# Altium integrated library TI Data Converters Digital to Analog Converter.IntLib: 1533 symbols (part 44 of 99)
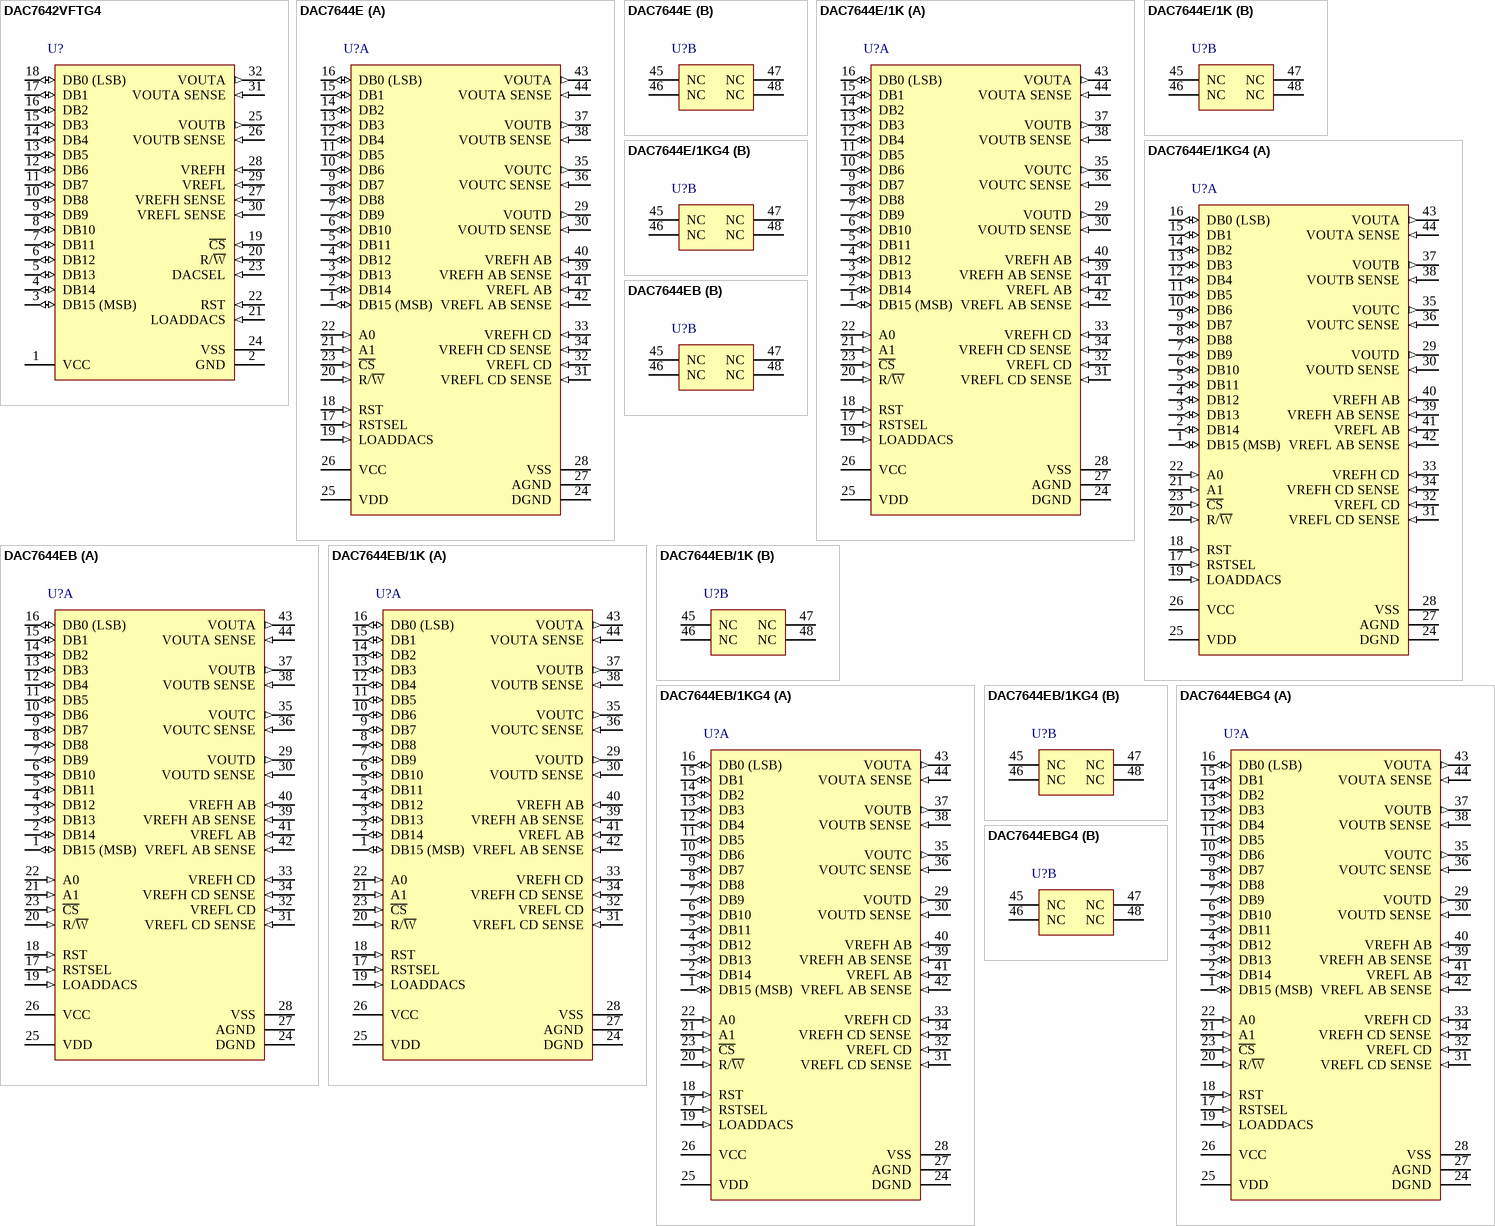
[diagram p116: symbols DAC7642VFTG4 to DAC7644EBG4]

## DAC7644E/1KG4
designator U?
16-Bit, Quad Voltage Output DAC, -40 to 85 degC, 48-pin SOP (DL48), Green (RoHS & no Sb/Br); Manufacturer: Texas Instruments; PartNumber: DAC7644E/1KG4; DAC Channels: 4; DNL(Max)(+/-LSB): 3; Interface: Parallel; Resolution(Bits): 16; Settling Time(us): 10; SubFamily: Precision DAC (=<10MSPS); DatasheetVersion: SBAS121; PackageVersion: 4040048/E, 12/2001; PackageReference: DL48; PackageDescription: 48-Pin Plastic Small Outline, Body 7.49 x 15.88 mm, Pitch 0.635 mm; Supplier 1: Digi-Key; Supplier Part Number 1: DAC7644E/1KG4-ND; Supplier 2: Mouser; Supplier Part Number 2: 595-DAC7644E/1KG4; Eco-Plan: Green (RoHS & no Sb/Br); INL(Max)(+/-LSB): 4; Mounting Technology: Surface Mount; Code_JEDEC: MO-118; ComponentLink1Description: Manufacturer URL; ComponentLink1URL: http://www.ti.com/; ComponentLink2Description: Datasheet; ComponentLink2URL: http://www.ti.com/general/docs/lit/getliterature.tsp?genericPartNumber=DAC7644&fileType=pdf; ComponentLink3Description: Package Specification; ComponentLink3URL: http://www.ti.com/lit/ml/msso001c/msso001c.pdf
footprint TI-DL48_N (SOP, 48-Leads, Body 15.88x7.49mm, Pitch 0.635mm, IPC Medium Density)
footprint TI-DL48_L (SOP, 48-Leads, Body 15.88x7.49mm, Pitch 0.635mm, IPC High Density)
footprint TI-DL48_M (SOP, 48-Leads, Body 15.88x7.49mm, Pitch 0.635mm, IPC Low Density)
part A pins: 1 DB15 (MSB) (io) "Data Bit 15, MSB", 2 DB14 (io) "Data Bit 14", 3 DB13 (io) "Data Bit 13", 4 DB12 (io) "Data Bit 12", 5 DB11 (io) "Data Bit 11", 6 DB10 (io) "Data Bit 10", 7 DB9 (io) "Data Bit 9", 8 DB8 (io) "Data Bit 8", 9 DB7 (io) "Data Bit 7", 10 DB6 (io) "Data Bit 6", 11 DB5 (io) "Data Bit 5", 12 DB4 (io) "Data Bit 4", 13 DB3 (io) "Data Bit 3", 14 DB2 (io) "Data Bit 2", 15 DB1 (io) "Data Bit 1", 16 DB0 (LSB) (io) "Data Bit 0, LSB", 17 RSTSEL (in) "Reset Select. Determines the action of RST. If HIGH, a RST command will set the DAC registers to mid-scale. If LOW, a RST command will set the DAC registers to zero.", 18 RST (in) "Reset, Rising Edge Triggered. Depending on the state of RSTSEL, the DAC registers are set to either mid-scale or zero.", 19 LOADDACS (in) "DAC Output Registers Load Control. Rising edge triggered.", 20 R/~{W} (in) "Enabled by the C\S\, Controls Data Read and Write from the Input Registers.", 21 A1 (in) "Enabled by the C\S\, in Combination With A0 Selects the Individual DAC Input Registers.", 22 A0 (in) "Enabled by the C\S\, in Combination With A1 Selects the Individual DAC Input Registers.", 23 ~{CS} (in) "Chip Select. Active LOW.", 24 DGND (power) "Digital Ground", 25 VDD (power) "Positive Power Supply (digital)", 26 VCC (power) "Positive Power Supply (analog)", 27 AGND (power) "Analog Ground", 28 VSS (power) "Negative Power Supply", 29 VOUTD (out) "DAC D Voltage Output", 30 VOUTD SENSE (in) "DAC D’s Output Amplifier Inverting Input. Used to close the feedback loop at the load.", 31 VREFL CD SENSE (in) "DAC C and D Reference Low Sense Input", 32 VREFL CD (in) "DAC C and D Reference Low Input", 33 VREFH CD (in) "DAC C and D Reference High Input", 34 VREFH CD SENSE (in) "DAC C and D Reference High Sense Input", 35 VOUTC (out) "DAC C Voltage Output", 36 VOUTC SENSE (in) "DAC C’s Output Amplifier Inverting Input. Used to close the feedback loop at the load.", 37 VOUTB (out) "DAC B Voltage Output", 38 VOUTB SENSE (in) "DAC B’s Output Amplifier Inverting Input. Used to close the feedback loop at the load.", 39 VREFH AB SENSE (in) "DAC A and B Reference High Sense Input", 40 VREFH AB (in) "DAC A and B Reference High Input", 41 VREFL AB (in) "DAC A and B Reference Low Input", 42 VREFL AB SENSE (in) "DAC A and B Reference Low Sense Input", 43 VOUTA (out) "DAC A Voltage Output", 44 VOUTA SENSE (in) "DAC A’s Output Amplifier Inverting Input. Used to close the feedback loop at the load."
part B pins: 45 NC "No Connection", 46 NC "No Connection", 47 NC "No Connection", 48 NC "No Connection"

## DAC7644EB
designator U?
16-Bit, Quad Voltage Output DAC, -40 to 85 degC, 48-pin SOP (DL48), Green (RoHS & no Sb/Br); Manufacturer: Texas Instruments; PartNumber: DAC7644EB; DAC Channels: 4; DNL(Max)(+/-LSB): 2; INL(Max)(+/-LSB): 3; Interface: Parallel; Resolution(Bits): 16; Settling Time(us): 10; SubFamily: Precision DAC (=<10MSPS); DatasheetVersion: SBAS121; PackageVersion: 4040048/E, 12/2001; PackageReference: DL48; PackageDescription: 48-Pin Plastic Small Outline, Body 7.49 x 15.88 mm, Pitch 0.635 mm; Supplier 1: Digi-Key; Supplier Part Number 1: DAC7644EB-ND; Supplier 2: Newark; Supplier Part Number 2: 35C1646; Supplier 3: Mouser; Supplier Part Number 3: 595-DAC7644EB; Eco-Plan: Green (RoHS & no Sb/Br); Mounting Technology: Surface Mount; Code_JEDEC: MO-118; ComponentLink1Description: Manufacturer URL; ComponentLink1URL: http://www.ti.com/; ComponentLink2Description: Datasheet; ComponentLink2URL: http://www.ti.com/general/docs/lit/getliterature.tsp?genericPartNumber=DAC7644&fileType=pdf; ComponentLink3Description: Package Specification; ComponentLink3URL: http://www.ti.com/lit/ml/msso001c/msso001c.pdf
footprint TI-DL48_N (SOP, 48-Leads, Body 15.88x7.49mm, Pitch 0.635mm, IPC Medium Density)
footprint TI-DL48_L (SOP, 48-Leads, Body 15.88x7.49mm, Pitch 0.635mm, IPC High Density)
footprint TI-DL48_M (SOP, 48-Leads, Body 15.88x7.49mm, Pitch 0.635mm, IPC Low Density)
part A pins: 1 DB15 (MSB) (io) "Data Bit 15, MSB", 2 DB14 (io) "Data Bit 14", 3 DB13 (io) "Data Bit 13", 4 DB12 (io) "Data Bit 12", 5 DB11 (io) "Data Bit 11", 6 DB10 (io) "Data Bit 10", 7 DB9 (io) "Data Bit 9", 8 DB8 (io) "Data Bit 8", 9 DB7 (io) "Data Bit 7", 10 DB6 (io) "Data Bit 6", 11 DB5 (io) "Data Bit 5", 12 DB4 (io) "Data Bit 4", 13 DB3 (io) "Data Bit 3", 14 DB2 (io) "Data Bit 2", 15 DB1 (io) "Data Bit 1", 16 DB0 (LSB) (io) "Data Bit 0, LSB", 17 RSTSEL (in) "Reset Select. Determines the action of RST. If HIGH, a RST command will set the DAC registers to mid-scale. If LOW, a RST command will set the DAC registers to zero.", 18 RST (in) "Reset, Rising Edge Triggered. Depending on the state of RSTSEL, the DAC registers are set to either mid-scale or zero.", 19 LOADDACS (in) "DAC Output Registers Load Control. Rising edge triggered.", 20 R/~{W} (in) "Enabled by the C\S\, Controls Data Read and Write from the Input Registers.", 21 A1 (in) "Enabled by the C\S\, in Combination With A0 Selects the Individual DAC Input Registers.", 22 A0 (in) "Enabled by the C\S\, in Combination With A1 Selects the Individual DAC Input Registers.", 23 ~{CS} (in) "Chip Select. Active LOW.", 24 DGND (power) "Digital Ground", 25 VDD (power) "Positive Power Supply (digital)", 26 VCC (power) "Positive Power Supply (analog)", 27 AGND (power) "Analog Ground", 28 VSS (power) "Negative Power Supply", 29 VOUTD (out) "DAC D Voltage Output", 30 VOUTD SENSE (in) "DAC D’s Output Amplifier Inverting Input. Used to close the feedback loop at the load.", 31 VREFL CD SENSE (in) "DAC C and D Reference Low Sense Input", 32 VREFL CD (in) "DAC C and D Reference Low Input", 33 VREFH CD (in) "DAC C and D Reference High Input", 34 VREFH CD SENSE (in) "DAC C and D Reference High Sense Input", 35 VOUTC (out) "DAC C Voltage Output", 36 VOUTC SENSE (in) "DAC C’s Output Amplifier Inverting Input. Used to close the feedback loop at the load.", 37 VOUTB (out) "DAC B Voltage Output", 38 VOUTB SENSE (in) "DAC B’s Output Amplifier Inverting Input. Used to close the feedback loop at the load.", 39 VREFH AB SENSE (in) "DAC A and B Reference High Sense Input", 40 VREFH AB (in) "DAC A and B Reference High Input", 41 VREFL AB (in) "DAC A and B Reference Low Input", 42 VREFL AB SENSE (in) "DAC A and B Reference Low Sense Input", 43 VOUTA (out) "DAC A Voltage Output", 44 VOUTA SENSE (in) "DAC A’s Output Amplifier Inverting Input. Used to close the feedback loop at the load."
part B pins: 45 NC "No Connection", 46 NC "No Connection", 47 NC "No Connection", 48 NC "No Connection"

## DAC7644EB/1K
designator U?
16-Bit, Quad Voltage Output DAC, -40 to 85 degC, 48-pin SOP (DL48), Green (RoHS & no Sb/Br); Manufacturer: Texas Instruments; PartNumber: DAC7644EB/1K; DAC Channels: 4; DNL(Max)(+/-LSB): 2; INL(Max)(+/-LSB): 3; Interface: Parallel; Resolution(Bits): 16; Settling Time(us): 10; SubFamily: Precision DAC (=<10MSPS); DatasheetVersion: SBAS121; PackageVersion: 4040048/E, 12/2001; PackageReference: DL48; PackageDescription: 48-Pin Plastic Small Outline, Body 7.49 x 15.88 mm, Pitch 0.635 mm; Supplier 1: Digi-Key; Supplier Part Number 1: DAC7644EB/1K-ND; Supplier 2: Mouser; Supplier Part Number 2: 595-DAC7644EB/1K; Eco-Plan: Green (RoHS & no Sb/Br); Mounting Technology: Surface Mount; Code_JEDEC: MO-118; ComponentLink1Description: Manufacturer URL; ComponentLink1URL: http://www.ti.com/; ComponentLink2Description: Datasheet; ComponentLink2URL: http://www.ti.com/general/docs/lit/getliterature.tsp?genericPartNumber=DAC7644&fileType=pdf; ComponentLink3Description: Package Specification; ComponentLink3URL: http://www.ti.com/lit/ml/msso001c/msso001c.pdf
footprint TI-DL48_N (SOP, 48-Leads, Body 15.88x7.49mm, Pitch 0.635mm, IPC Medium Density)
footprint TI-DL48_L (SOP, 48-Leads, Body 15.88x7.49mm, Pitch 0.635mm, IPC High Density)
footprint TI-DL48_M (SOP, 48-Leads, Body 15.88x7.49mm, Pitch 0.635mm, IPC Low Density)
part A pins: 1 DB15 (MSB) (io) "Data Bit 15, MSB", 2 DB14 (io) "Data Bit 14", 3 DB13 (io) "Data Bit 13", 4 DB12 (io) "Data Bit 12", 5 DB11 (io) "Data Bit 11", 6 DB10 (io) "Data Bit 10", 7 DB9 (io) "Data Bit 9", 8 DB8 (io) "Data Bit 8", 9 DB7 (io) "Data Bit 7", 10 DB6 (io) "Data Bit 6", 11 DB5 (io) "Data Bit 5", 12 DB4 (io) "Data Bit 4", 13 DB3 (io) "Data Bit 3", 14 DB2 (io) "Data Bit 2", 15 DB1 (io) "Data Bit 1", 16 DB0 (LSB) (io) "Data Bit 0, LSB", 17 RSTSEL (in) "Reset Select. Determines the action of RST. If HIGH, a RST command will set the DAC registers to mid-scale. If LOW, a RST command will set the DAC registers to zero.", 18 RST (in) "Reset, Rising Edge Triggered. Depending on the state of RSTSEL, the DAC registers are set to either mid-scale or zero.", 19 LOADDACS (in) "DAC Output Registers Load Control. Rising edge triggered.", 20 R/~{W} (in) "Enabled by the C\S\, Controls Data Read and Write from the Input Registers.", 21 A1 (in) "Enabled by the C\S\, in Combination With A0 Selects the Individual DAC Input Registers.", 22 A0 (in) "Enabled by the C\S\, in Combination With A1 Selects the Individual DAC Input Registers.", 23 ~{CS} (in) "Chip Select. Active LOW.", 24 DGND (power) "Digital Ground", 25 VDD (power) "Positive Power Supply (digital)", 26 VCC (power) "Positive Power Supply (analog)", 27 AGND (power) "Analog Ground", 28 VSS (power) "Negative Power Supply", 29 VOUTD (out) "DAC D Voltage Output", 30 VOUTD SENSE (in) "DAC D’s Output Amplifier Inverting Input. Used to close the feedback loop at the load.", 31 VREFL CD SENSE (in) "DAC C and D Reference Low Sense Input", 32 VREFL CD (in) "DAC C and D Reference Low Input", 33 VREFH CD (in) "DAC C and D Reference High Input", 34 VREFH CD SENSE (in) "DAC C and D Reference High Sense Input", 35 VOUTC (out) "DAC C Voltage Output", 36 VOUTC SENSE (in) "DAC C’s Output Amplifier Inverting Input. Used to close the feedback loop at the load.", 37 VOUTB (out) "DAC B Voltage Output", 38 VOUTB SENSE (in) "DAC B’s Output Amplifier Inverting Input. Used to close the feedback loop at the load.", 39 VREFH AB SENSE (in) "DAC A and B Reference High Sense Input", 40 VREFH AB (in) "DAC A and B Reference High Input", 41 VREFL AB (in) "DAC A and B Reference Low Input", 42 VREFL AB SENSE (in) "DAC A and B Reference Low Sense Input", 43 VOUTA (out) "DAC A Voltage Output", 44 VOUTA SENSE (in) "DAC A’s Output Amplifier Inverting Input. Used to close the feedback loop at the load."
part B pins: 45 NC "No Connection", 46 NC "No Connection", 47 NC "No Connection", 48 NC "No Connection"

## DAC7644EB/1KG4
designator U?
16-Bit, Quad Voltage Output DAC, -40 to 85 degC, 48-pin SOP (DL48), Green (RoHS & no Sb/Br); Manufacturer: Texas Instruments; PartNumber: DAC7644EB/1KG4; DAC Channels: 4; DNL(Max)(+/-LSB): 2; INL(Max)(+/-LSB): 3; Interface: Parallel; Resolution(Bits): 16; Settling Time(us): 10; SubFamily: Precision DAC (=<10MSPS); DatasheetVersion: SBAS121; PackageVersion: 4040048/E, 12/2001; PackageReference: DL48; PackageDescription: 48-Pin Plastic Small Outline, Body 7.49 x 15.88 mm, Pitch 0.635 mm; Supplier 1: Digi-Key; Supplier Part Number 1: DAC7644EB/1KG4-ND; Supplier 2: Mouser; Supplier Part Number 2: 595-DAC7644EB/1KG4; Eco-Plan: Green (RoHS & no Sb/Br); Mounting Technology: Surface Mount; Code_JEDEC: MO-118; ComponentLink1Description: Manufacturer URL; ComponentLink1URL: http://www.ti.com/; ComponentLink2Description: Datasheet; ComponentLink2URL: http://www.ti.com/general/docs/lit/getliterature.tsp?genericPartNumber=DAC7644&fileType=pdf; ComponentLink3Description: Package Specification; ComponentLink3URL: http://www.ti.com/lit/ml/msso001c/msso001c.pdf
footprint TI-DL48_N (SOP, 48-Leads, Body 15.88x7.49mm, Pitch 0.635mm, IPC Medium Density)
footprint TI-DL48_L (SOP, 48-Leads, Body 15.88x7.49mm, Pitch 0.635mm, IPC High Density)
footprint TI-DL48_M (SOP, 48-Leads, Body 15.88x7.49mm, Pitch 0.635mm, IPC Low Density)
part A pins: 1 DB15 (MSB) (io) "Data Bit 15, MSB", 2 DB14 (io) "Data Bit 14", 3 DB13 (io) "Data Bit 13", 4 DB12 (io) "Data Bit 12", 5 DB11 (io) "Data Bit 11", 6 DB10 (io) "Data Bit 10", 7 DB9 (io) "Data Bit 9", 8 DB8 (io) "Data Bit 8", 9 DB7 (io) "Data Bit 7", 10 DB6 (io) "Data Bit 6", 11 DB5 (io) "Data Bit 5", 12 DB4 (io) "Data Bit 4", 13 DB3 (io) "Data Bit 3", 14 DB2 (io) "Data Bit 2", 15 DB1 (io) "Data Bit 1", 16 DB0 (LSB) (io) "Data Bit 0, LSB", 17 RSTSEL (in) "Reset Select. Determines the action of RST. If HIGH, a RST command will set the DAC registers to mid-scale. If LOW, a RST command will set the DAC registers to zero.", 18 RST (in) "Reset, Rising Edge Triggered. Depending on the state of RSTSEL, the DAC registers are set to either mid-scale or zero.", 19 LOADDACS (in) "DAC Output Registers Load Control. Rising edge triggered.", 20 R/~{W} (in) "Enabled by the C\S\, Controls Data Read and Write from the Input Registers.", 21 A1 (in) "Enabled by the C\S\, in Combination With A0 Selects the Individual DAC Input Registers.", 22 A0 (in) "Enabled by the C\S\, in Combination With A1 Selects the Individual DAC Input Registers.", 23 ~{CS} (in) "Chip Select. Active LOW.", 24 DGND (power) "Digital Ground", 25 VDD (power) "Positive Power Supply (digital)", 26 VCC (power) "Positive Power Supply (analog)", 27 AGND (power) "Analog Ground", 28 VSS (power) "Negative Power Supply", 29 VOUTD (out) "DAC D Voltage Output", 30 VOUTD SENSE (in) "DAC D’s Output Amplifier Inverting Input. Used to close the feedback loop at the load.", 31 VREFL CD SENSE (in) "DAC C and D Reference Low Sense Input", 32 VREFL CD (in) "DAC C and D Reference Low Input", 33 VREFH CD (in) "DAC C and D Reference High Input", 34 VREFH CD SENSE (in) "DAC C and D Reference High Sense Input", 35 VOUTC (out) "DAC C Voltage Output", 36 VOUTC SENSE (in) "DAC C’s Output Amplifier Inverting Input. Used to close the feedback loop at the load.", 37 VOUTB (out) "DAC B Voltage Output", 38 VOUTB SENSE (in) "DAC B’s Output Amplifier Inverting Input. Used to close the feedback loop at the load.", 39 VREFH AB SENSE (in) "DAC A and B Reference High Sense Input", 40 VREFH AB (in) "DAC A and B Reference High Input", 41 VREFL AB (in) "DAC A and B Reference Low Input", 42 VREFL AB SENSE (in) "DAC A and B Reference Low Sense Input", 43 VOUTA (out) "DAC A Voltage Output", 44 VOUTA SENSE (in) "DAC A’s Output Amplifier Inverting Input. Used to close the feedback loop at the load."
part B pins: 45 NC "No Connection", 46 NC "No Connection", 47 NC "No Connection", 48 NC "No Connection"

## DAC7644EBG4
designator U?
16-Bit, Quad Voltage Output DAC, -40 to 85 degC, 48-pin SOP (DL48), Green (RoHS & no Sb/Br); Manufacturer: Texas Instruments; PartNumber: DAC7644EBG4; DAC Channels: 4; DNL(Max)(+/-LSB): 2; INL(Max)(+/-LSB): 3; Interface: Parallel; Resolution(Bits): 16; Settling Time(us): 10; SubFamily: Precision DAC (=<10MSPS); DatasheetVersion: SBAS121; PackageVersion: 4040048/E, 12/2001; PackageReference: DL48; PackageDescription: 48-Pin Plastic Small Outline, Body 7.49 x 15.88 mm, Pitch 0.635 mm; Supplier 1: Digi-Key; Supplier Part Number 1: DAC7644EBG4-ND; Supplier 2: Newark; Supplier Part Number 2: 88K3815; Supplier 3: Mouser; Supplier Part Number 3: 595-DAC7644EBG4; Eco-Plan: Green (RoHS & no Sb/Br); Mounting Technology: Surface Mount; Code_JEDEC: MO-118; ComponentLink1Description: Manufacturer URL; ComponentLink1URL: http://www.ti.com/; ComponentLink2Description: Datasheet; ComponentLink2URL: http://www.ti.com/general/docs/lit/getliterature.tsp?genericPartNumber=DAC7644&fileType=pdf; ComponentLink3Description: Package Specification; ComponentLink3URL: http://www.ti.com/lit/ml/msso001c/msso001c.pdf
footprint TI-DL48_N (SOP, 48-Leads, Body 15.88x7.49mm, Pitch 0.635mm, IPC Medium Density)
footprint TI-DL48_L (SOP, 48-Leads, Body 15.88x7.49mm, Pitch 0.635mm, IPC High Density)
footprint TI-DL48_M (SOP, 48-Leads, Body 15.88x7.49mm, Pitch 0.635mm, IPC Low Density)
part A pins: 1 DB15 (MSB) (io) "Data Bit 15, MSB", 2 DB14 (io) "Data Bit 14", 3 DB13 (io) "Data Bit 13", 4 DB12 (io) "Data Bit 12", 5 DB11 (io) "Data Bit 11", 6 DB10 (io) "Data Bit 10", 7 DB9 (io) "Data Bit 9", 8 DB8 (io) "Data Bit 8", 9 DB7 (io) "Data Bit 7", 10 DB6 (io) "Data Bit 6", 11 DB5 (io) "Data Bit 5", 12 DB4 (io) "Data Bit 4", 13 DB3 (io) "Data Bit 3", 14 DB2 (io) "Data Bit 2", 15 DB1 (io) "Data Bit 1", 16 DB0 (LSB) (io) "Data Bit 0, LSB", 17 RSTSEL (in) "Reset Select. Determines the action of RST. If HIGH, a RST command will set the DAC registers to mid-scale. If LOW, a RST command will set the DAC registers to zero.", 18 RST (in) "Reset, Rising Edge Triggered. Depending on the state of RSTSEL, the DAC registers are set to either mid-scale or zero.", 19 LOADDACS (in) "DAC Output Registers Load Control. Rising edge triggered.", 20 R/~{W} (in) "Enabled by the C\S\, Controls Data Read and Write from the Input Registers.", 21 A1 (in) "Enabled by the C\S\, in Combination With A0 Selects the Individual DAC Input Registers.", 22 A0 (in) "Enabled by the C\S\, in Combination With A1 Selects the Individual DAC Input Registers.", 23 ~{CS} (in) "Chip Select. Active LOW.", 24 DGND (power) "Digital Ground", 25 VDD (power) "Positive Power Supply (digital)", 26 VCC (power) "Positive Power Supply (analog)", 27 AGND (power) "Analog Ground", 28 VSS (power) "Negative Power Supply", 29 VOUTD (out) "DAC D Voltage Output", 30 VOUTD SENSE (in) "DAC D’s Output Amplifier Inverting Input. Used to close the feedback loop at the load.", 31 VREFL CD SENSE (in) "DAC C and D Reference Low Sense Input", 32 VREFL CD (in) "DAC C and D Reference Low Input", 33 VREFH CD (in) "DAC C and D Reference High Input", 34 VREFH CD SENSE (in) "DAC C and D Reference High Sense Input", 35 VOUTC (out) "DAC C Voltage Output", 36 VOUTC SENSE (in) "DAC C’s Output Amplifier Inverting Input. Used to close the feedback loop at the load.", 37 VOUTB (out) "DAC B Voltage Output", 38 VOUTB SENSE (in) "DAC B’s Output Amplifier Inverting Input. Used to close the feedback loop at the load.", 39 VREFH AB SENSE (in) "DAC A and B Reference High Sense Input", 40 VREFH AB (in) "DAC A and B Reference High Input", 41 VREFL AB (in) "DAC A and B Reference Low Input", 42 VREFL AB SENSE (in) "DAC A and B Reference Low Sense Input", 43 VOUTA (out) "DAC A Voltage Output", 44 VOUTA SENSE (in) "DAC A’s Output Amplifier Inverting Input. Used to close the feedback loop at the load."
part B pins: 45 NC "No Connection", 46 NC "No Connection", 47 NC "No Connection", 48 NC "No Connection"

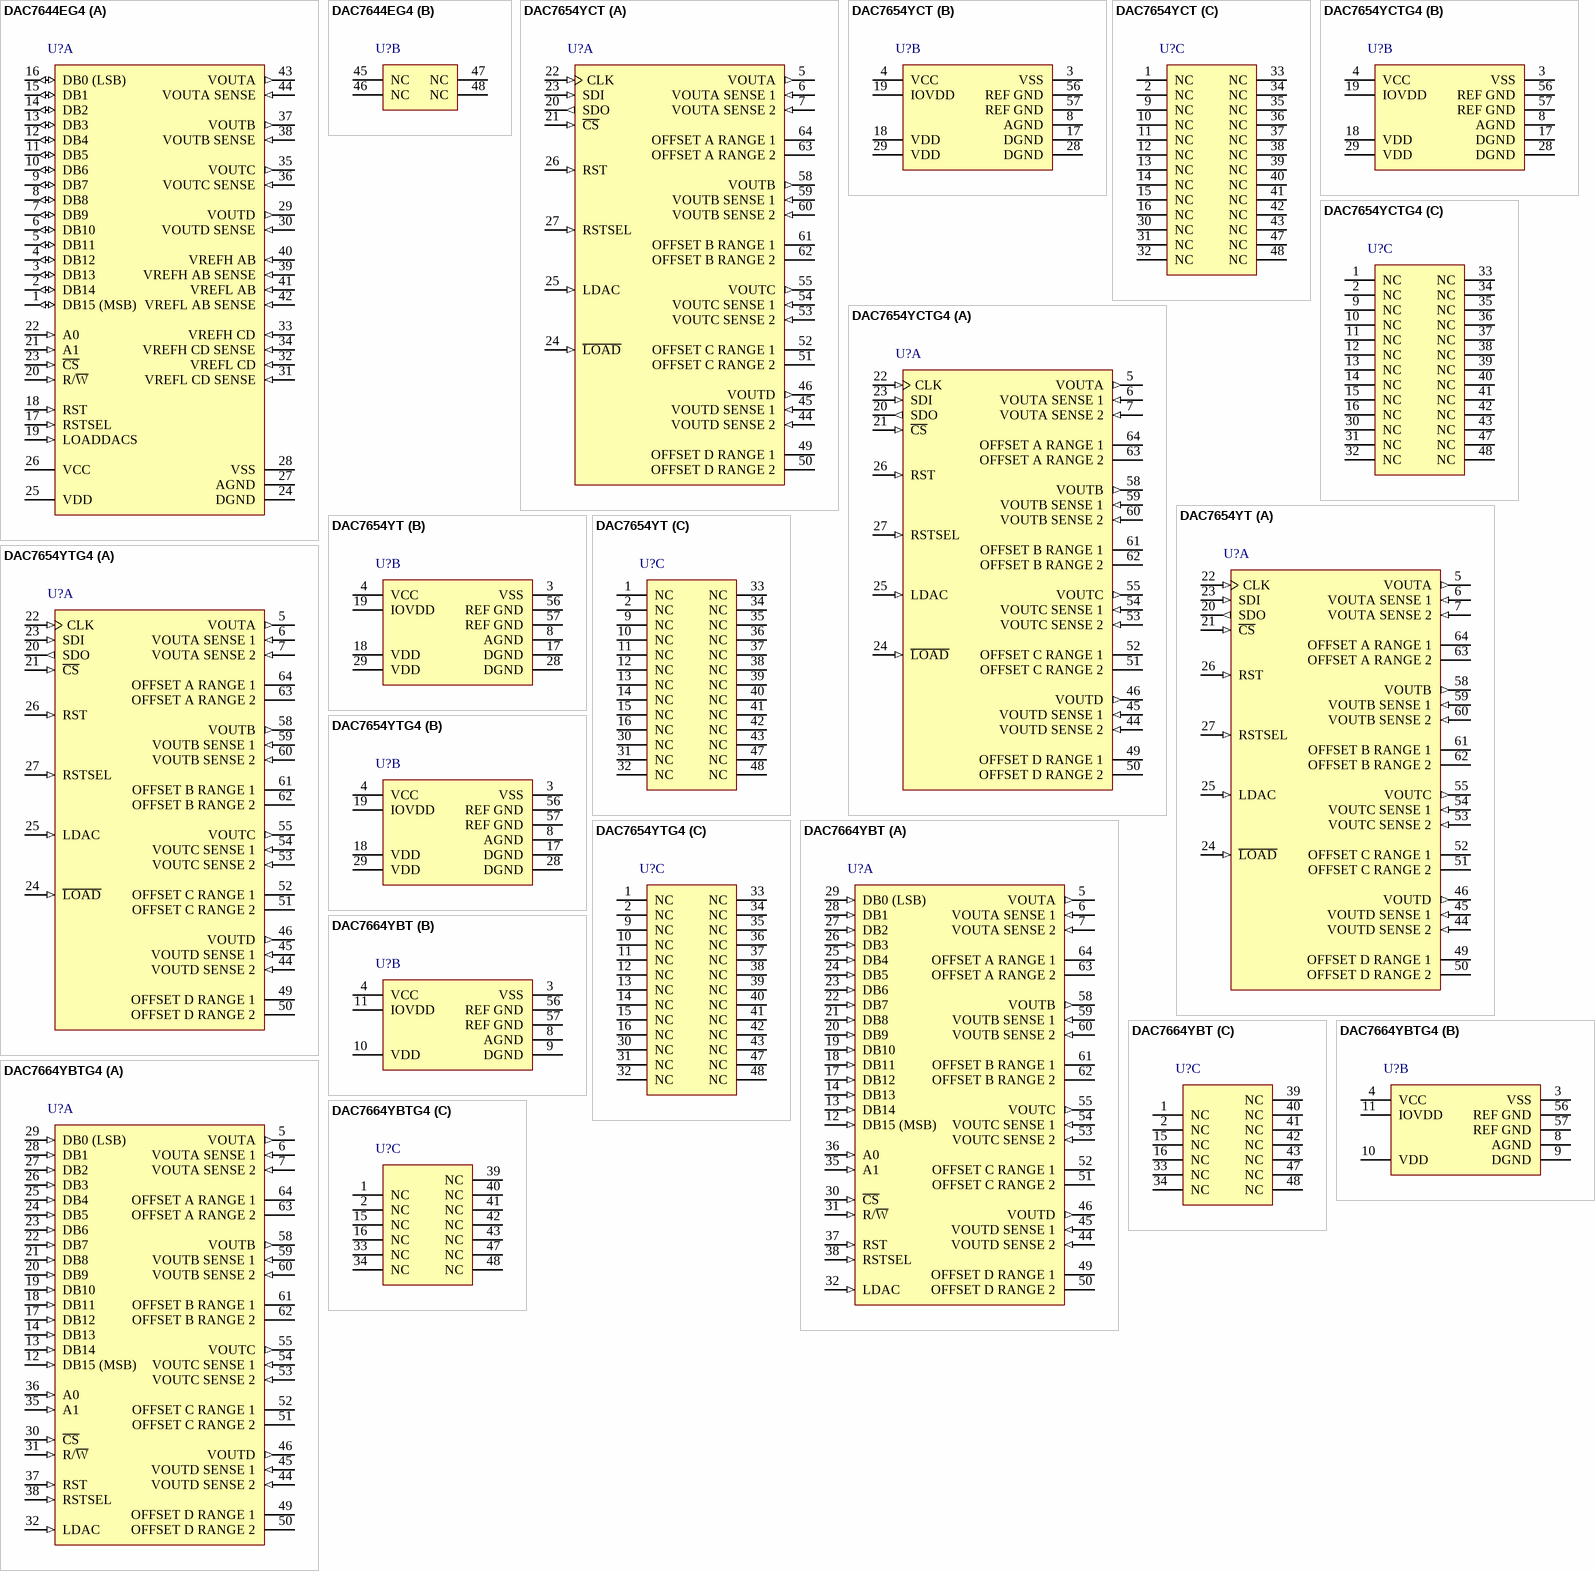
[diagram p33: symbols DAC7644EG4 to DAC7664YBTG4]

## DAC7644EG4
designator U?
16-Bit, Quad Voltage Output DAC, -40 to 85 degC, 48-pin SOP (DL48), Green (RoHS & no Sb/Br); Manufacturer: Texas Instruments; PartNumber: DAC7644EG4; DAC Channels: 4; DNL(Max)(+/-LSB): 3; Interface: Parallel; Resolution(Bits): 16; Settling Time(us): 10; SubFamily: Precision DAC (=<10MSPS); DatasheetVersion: SBAS121; PackageVersion: 4040048/E, 12/2001; PackageReference: DL48; PackageDescription: 48-Pin Plastic Small Outline, Body 7.49 x 15.88 mm, Pitch 0.635 mm; Supplier 1: Digi-Key; Supplier Part Number 1: DAC7644EG4-ND; Supplier 2: Farnell; Supplier Part Number 2: 1214360; Supplier 3: Mouser; Supplier Part Number 3: 595-DAC7644EG4; Eco-Plan: Green (RoHS & no Sb/Br); INL(Max)(+/-LSB): 4; Mounting Technology: Surface Mount; Code_JEDEC: MO-118; ComponentLink1Description: Manufacturer URL; ComponentLink1URL: http://www.ti.com/; ComponentLink2Description: Datasheet; ComponentLink2URL: http://www.ti.com/general/docs/lit/getliterature.tsp?genericPartNumber=DAC7644&fileType=pdf; ComponentLink3Description: Package Specification; ComponentLink3URL: http://www.ti.com/lit/ml/msso001c/msso001c.pdf
footprint TI-DL48_N (SOP, 48-Leads, Body 15.88x7.49mm, Pitch 0.635mm, IPC Medium Density)
footprint TI-DL48_L (SOP, 48-Leads, Body 15.88x7.49mm, Pitch 0.635mm, IPC High Density)
footprint TI-DL48_M (SOP, 48-Leads, Body 15.88x7.49mm, Pitch 0.635mm, IPC Low Density)
part A pins: 1 DB15 (MSB) (io) "Data Bit 15, MSB", 2 DB14 (io) "Data Bit 14", 3 DB13 (io) "Data Bit 13", 4 DB12 (io) "Data Bit 12", 5 DB11 (io) "Data Bit 11", 6 DB10 (io) "Data Bit 10", 7 DB9 (io) "Data Bit 9", 8 DB8 (io) "Data Bit 8", 9 DB7 (io) "Data Bit 7", 10 DB6 (io) "Data Bit 6", 11 DB5 (io) "Data Bit 5", 12 DB4 (io) "Data Bit 4", 13 DB3 (io) "Data Bit 3", 14 DB2 (io) "Data Bit 2", 15 DB1 (io) "Data Bit 1", 16 DB0 (LSB) (io) "Data Bit 0, LSB", 17 RSTSEL (in) "Reset Select. Determines the action of RST. If HIGH, a RST command will set the DAC registers to mid-scale. If LOW, a RST command will set the DAC registers to zero.", 18 RST (in) "Reset, Rising Edge Triggered. Depending on the state of RSTSEL, the DAC registers are set to either mid-scale or zero.", 19 LOADDACS (in) "DAC Output Registers Load Control. Rising edge triggered.", 20 R/~{W} (in) "Enabled by the C\S\, Controls Data Read and Write from the Input Registers.", 21 A1 (in) "Enabled by the C\S\, in Combination With A0 Selects the Individual DAC Input Registers.", 22 A0 (in) "Enabled by the C\S\, in Combination With A1 Selects the Individual DAC Input Registers.", 23 ~{CS} (in) "Chip Select. Active LOW.", 24 DGND (power) "Digital Ground", 25 VDD (power) "Positive Power Supply (digital)", 26 VCC (power) "Positive Power Supply (analog)", 27 AGND (power) "Analog Ground", 28 VSS (power) "Negative Power Supply", 29 VOUTD (out) "DAC D Voltage Output", 30 VOUTD SENSE (in) "DAC D’s Output Amplifier Inverting Input. Used to close the feedback loop at the load.", 31 VREFL CD SENSE (in) "DAC C and D Reference Low Sense Input", 32 VREFL CD (in) "DAC C and D Reference Low Input", 33 VREFH CD (in) "DAC C and D Reference High Input", 34 VREFH CD SENSE (in) "DAC C and D Reference High Sense Input", 35 VOUTC (out) "DAC C Voltage Output", 36 VOUTC SENSE (in) "DAC C’s Output Amplifier Inverting Input. Used to close the feedback loop at the load.", 37 VOUTB (out) "DAC B Voltage Output", 38 VOUTB SENSE (in) "DAC B’s Output Amplifier Inverting Input. Used to close the feedback loop at the load.", 39 VREFH AB SENSE (in) "DAC A and B Reference High Sense Input", 40 VREFH AB (in) "DAC A and B Reference High Input", 41 VREFL AB (in) "DAC A and B Reference Low Input", 42 VREFL AB SENSE (in) "DAC A and B Reference Low Sense Input", 43 VOUTA (out) "DAC A Voltage Output", 44 VOUTA SENSE (in) "DAC A’s Output Amplifier Inverting Input. Used to close the feedback loop at the load."
part B pins: 45 NC "No Connection", 46 NC "No Connection", 47 NC "No Connection", 48 NC "No Connection"

## DAC7654YCT
designator U?
16-Bit, Quad Voltage Output Digital to Analog Converter, -40 to 85 degC, 64-pin QFP (PM64), Green (RoHS & no Sb/Br); Manufacturer: Texas Instruments; PartNumber: DAC7654YCT; DAC Channels: 4; DNL(Max)(+/-LSB): 2; INL(Max)(+/-LSB): 3; Interface: Serial SPI; Power Consumption(Typ)(mW): 18; Resolution(Bits): 16; Settling Time(us): 12; SubFamily: Precision DAC (=<10MSPS); DatasheetVersion: SBAS263A; PackageVersion: 4040152/C, 11/1996; PackageReference: PM64; PackageDescription: 64-Pin Plastic Quad Flatpack, Body 10 x 10 mm, Pitch 0.5 mm; Supplier 1: Digi-Key; Supplier Part Number 1: 296-17887-2-ND; Supplier 2: Digi-Key; Supplier Part Number 2: 296-17887-1-ND; Supplier 3: Mouser; Supplier Part Number 3: 595-DAC7654YCT; Eco-Plan: Green (RoHS & no Sb/Br); Mounting Technology: Surface Mount; Code_JEDEC: MS-026; ComponentLink1Description: Manufacturer URL; ComponentLink1URL: http://www.ti.com/; ComponentLink2Description: Datasheet; ComponentLink2URL: http://www.ti.com/general/docs/lit/getliterature.tsp?genericPartNumber=DAC7654&fileType=pdf; ComponentLink3Description: Package Specification; ComponentLink3URL: http://www.ti.com/lit/ml/mtqf008a/mtqf008a.pdf
footprint TI-PM64_N (QFP, 64-Leads, Body 10x10mm, Pitch 0.5mm, IPC Medium Density)
footprint TI-PM64_L (QFP, 64-Leads, Body 10x10mm, Pitch 0.5mm, IPC High Density)
footprint TI-PM64_M (QFP, 64-Leads, Body 10x10mm, Pitch 0.5mm, IPC Low Density)
part A pins: 5 VOUTA (out) "DAC A output voltage", 6 VOUTA SENSE 1 (in) "Connect to VOUTA for unipolar mode", 7 VOUTA SENSE 2 (in) "Connect to VOUTA for bipolar mode", 20 SDO (out) "Serial data output", 21 ~{CS} (in) "Chip select, active low", 22 CLK (in) "Data clock input", 23 SDI (in) "Serial data input", 24 ~{LOAD} (in) "DAC input register load control, active low", 25 LDAC (in) "DAC register load control, rising edge triggered", 26 RST (in) "Reset, rising edge triggered. Depending on the state of RSTSEL, the DAC registers are set to either mid-scale or zero.", 27 RSTSEL (in) "Reset select. Determines the action of RST. If high, an RST command sets the DAC registers to mid-scale (8000h). If low, an RST command sets the DAC registers to zero (0000h).", 44 VOUTD SENSE 2 (in) "Connect to VOUTD for bipolar mode", 45 VOUTD SENSE 1 (in) "Connect to VOUTD for unipolar mode", 46 VOUTD (out) "DAC D output", 49 OFFSET D RANGE 1 "Connect to Offset D Range 2 for unipolar mode", 50 OFFSET D RANGE 2 "Connect to Offset D Range 1 for unipolar mode", 51 OFFSET C RANGE 2 "Connect to Offset C Range 1 for unipolar mode", 52 OFFSET C RANGE 1 "Connect to Offset C Range 2 for unipolar mode", 53 VOUTC SENSE 2 (in) "Connect to VOUTC for bipolar mode", 54 VOUTC SENSE 1 (in) "Connect to VOUTC for unipolar mode", 55 VOUTC (out) "DAC C output", 58 VOUTB (out) "DAC B output", 59 VOUTB SENSE 1 (in) "Connect to VOUTB for unipolar mode", 60 VOUTB SENSE 2 (in) "Connect to VOUTB for bipolar mode", 61 OFFSET B RANGE 1 "Connect to Offset B Range 2 for unipolar mode", 62 OFFSET B RANGE 2 "Connect to Offset B Range 1 for unipolar mode", 63 OFFSET A RANGE 2 "Connect to Offset A Range 1 for unipolar mode", 64 OFFSET A RANGE 1 "Connect to Offset A Range 2 for unipolar mode"
part B pins: 3 VSS (power) "Analog -5V power supply or 0V single supply", 4 VCC (power) "Analog +5V power supply", 8 AGND (power) "Analog ground", 17 DGND (power) "Digital ground", 18 VDD (power) "Digital +5V power supply", 19 IOVDD (power) "Interface power supply", 28 DGND (power) "Digital ground", 29 VDD (power) "Digital +5V power supply", 56 REF GND (power) "Reference ground", 57 REF GND (power) "Reference ground"
part C pins: 1 NC "No Connection", 2 NC "No Connection", 9 NC "No connection", 10 NC "No connection", 11 NC "No connection", 12 NC "No connection", 13 NC "No connection", 14 NC "No connection", 15 NC "No connection", 16 NC "No connection", 30 NC "No connection", 31 NC "No connection", 32 NC "No connection", 33 NC "No connection", 34 NC "No connection", 35 NC "No connection", 36 NC "No connection", 37 NC "No connection", 38 NC "No connection", 39 NC "No connection", 40 NC "No connection", 41 NC "No connection", 42 NC "No connection", 43 NC "No connection", 47 NC "No connection", 48 NC "No connection"

## DAC7654YCTG4
designator U?
16-Bit, Quad Voltage Output Digital to Analog Converter, -40 to 85 degC, 64-pin QFP (PM64), Green (RoHS & no Sb/Br); Manufacturer: Texas Instruments; PartNumber: DAC7654YCTG4; DAC Channels: 4; DNL(Max)(+/-LSB): 2; INL(Max)(+/-LSB): 3; Interface: Serial SPI; Power Consumption(Typ)(mW): 18; Resolution(Bits): 16; Settling Time(us): 12; SubFamily: Precision DAC (=<10MSPS); DatasheetVersion: SBAS263A; PackageVersion: 4040152/C, 11/1996; PackageReference: PM64; PackageDescription: 64-Pin Plastic Quad Flatpack, Body 10 x 10 mm, Pitch 0.5 mm; Supplier 1: Digi-Key; Supplier Part Number 1: DAC7654YCTG4-ND; Supplier 2: Mouser; Supplier Part Number 2: 595-DAC7654YCTG4; Eco-Plan: Green (RoHS & no Sb/Br); Mounting Technology: Surface Mount; Code_JEDEC: MS-026; ComponentLink1Description: Manufacturer URL; ComponentLink1URL: http://www.ti.com/; ComponentLink2Description: Datasheet; ComponentLink2URL: http://www.ti.com/general/docs/lit/getliterature.tsp?genericPartNumber=DAC7654&fileType=pdf; ComponentLink3Description: Package Specification; ComponentLink3URL: http://www.ti.com/lit/ml/mtqf008a/mtqf008a.pdf
footprint TI-PM64_N (QFP, 64-Leads, Body 10x10mm, Pitch 0.5mm, IPC Medium Density)
footprint TI-PM64_L (QFP, 64-Leads, Body 10x10mm, Pitch 0.5mm, IPC High Density)
footprint TI-PM64_M (QFP, 64-Leads, Body 10x10mm, Pitch 0.5mm, IPC Low Density)
part A pins: 5 VOUTA (out) "DAC A output voltage", 6 VOUTA SENSE 1 (in) "Connect to VOUTA for unipolar mode", 7 VOUTA SENSE 2 (in) "Connect to VOUTA for bipolar mode", 20 SDO (out) "Serial data output", 21 ~{CS} (in) "Chip select, active low", 22 CLK (in) "Data clock input", 23 SDI (in) "Serial data input", 24 ~{LOAD} (in) "DAC input register load control, active low", 25 LDAC (in) "DAC register load control, rising edge triggered", 26 RST (in) "Reset, rising edge triggered. Depending on the state of RSTSEL, the DAC registers are set to either mid-scale or zero.", 27 RSTSEL (in) "Reset select. Determines the action of RST. If high, an RST command sets the DAC registers to mid-scale (8000h). If low, an RST command sets the DAC registers to zero (0000h).", 44 VOUTD SENSE 2 (in) "Connect to VOUTD for bipolar mode", 45 VOUTD SENSE 1 (in) "Connect to VOUTD for unipolar mode", 46 VOUTD (out) "DAC D output", 49 OFFSET D RANGE 1 "Connect to Offset D Range 2 for unipolar mode", 50 OFFSET D RANGE 2 "Connect to Offset D Range 1 for unipolar mode", 51 OFFSET C RANGE 2 "Connect to Offset C Range 1 for unipolar mode", 52 OFFSET C RANGE 1 "Connect to Offset C Range 2 for unipolar mode", 53 VOUTC SENSE 2 (in) "Connect to VOUTC for bipolar mode", 54 VOUTC SENSE 1 (in) "Connect to VOUTC for unipolar mode", 55 VOUTC (out) "DAC C output", 58 VOUTB (out) "DAC B output", 59 VOUTB SENSE 1 (in) "Connect to VOUTB for unipolar mode", 60 VOUTB SENSE 2 (in) "Connect to VOUTB for bipolar mode", 61 OFFSET B RANGE 1 "Connect to Offset B Range 2 for unipolar mode", 62 OFFSET B RANGE 2 "Connect to Offset B Range 1 for unipolar mode", 63 OFFSET A RANGE 2 "Connect to Offset A Range 1 for unipolar mode", 64 OFFSET A RANGE 1 "Connect to Offset A Range 2 for unipolar mode"
part B pins: 3 VSS (power) "Analog -5V power supply or 0V single supply", 4 VCC (power) "Analog +5V power supply", 8 AGND (power) "Analog ground", 17 DGND (power) "Digital ground", 18 VDD (power) "Digital +5V power supply", 19 IOVDD (power) "Interface power supply", 28 DGND (power) "Digital ground", 29 VDD (power) "Digital +5V power supply", 56 REF GND (power) "Reference ground", 57 REF GND (power) "Reference ground"
part C pins: 1 NC "No Connection", 2 NC "No Connection", 9 NC "No connection", 10 NC "No connection", 11 NC "No connection", 12 NC "No connection", 13 NC "No connection", 14 NC "No connection", 15 NC "No connection", 16 NC "No connection", 30 NC "No connection", 31 NC "No connection", 32 NC "No connection", 33 NC "No connection", 34 NC "No connection", 35 NC "No connection", 36 NC "No connection", 37 NC "No connection", 38 NC "No connection", 39 NC "No connection", 40 NC "No connection", 41 NC "No connection", 42 NC "No connection", 43 NC "No connection", 47 NC "No connection", 48 NC "No connection"

## DAC7654YT
designator U?
16-Bit, Quad Voltage Output Digital to Analog Converter, -40 to 85 degC, 64-pin QFP (PM64), Green (RoHS & no Sb/Br); Manufacturer: Texas Instruments; PartNumber: DAC7654YT; DAC Channels: 4; DNL(Max)(+/-LSB): 3; Interface: Serial SPI; Power Consumption(Typ)(mW): 18; Resolution(Bits): 16; Settling Time(us): 12; SubFamily: Precision DAC (=<10MSPS); DatasheetVersion: SBAS263A; PackageVersion: 4040152/C, 11/1996; PackageReference: PM64; PackageDescription: 64-Pin Plastic Quad Flatpack, Body 10 x 10 mm, Pitch 0.5 mm; Supplier 1: Digi-Key; Supplier Part Number 1: 296-28746-2-ND; Supplier 2: Digi-Key; Supplier Part Number 2: 296-28746-1-ND; Supplier 3: Digi-Key; Supplier Part Number 3: 296-28746-6-ND; Supplier 4: Mouser; Supplier Part Number 4: 595-DAC7654YT; Eco-Plan: Green (RoHS & no Sb/Br); INL(Max)(+/-LSB): 4; Mounting Technology: Surface Mount; Code_JEDEC: MS-026; ComponentLink1Description: Manufacturer URL; ComponentLink1URL: http://www.ti.com/; ComponentLink2Description: Datasheet; ComponentLink2URL: http://www.ti.com/general/docs/lit/getliterature.tsp?genericPartNumber=DAC7654&fileType=pdf; ComponentLink3Description: Package Specification; ComponentLink3URL: http://www.ti.com/lit/ml/mtqf008a/mtqf008a.pdf
footprint TI-PM64_N (QFP, 64-Leads, Body 10x10mm, Pitch 0.5mm, IPC Medium Density)
footprint TI-PM64_L (QFP, 64-Leads, Body 10x10mm, Pitch 0.5mm, IPC High Density)
footprint TI-PM64_M (QFP, 64-Leads, Body 10x10mm, Pitch 0.5mm, IPC Low Density)
part A pins: 5 VOUTA (out) "DAC A output voltage", 6 VOUTA SENSE 1 (in) "Connect to VOUTA for unipolar mode", 7 VOUTA SENSE 2 (in) "Connect to VOUTA for bipolar mode", 20 SDO (out) "Serial data output", 21 ~{CS} (in) "Chip select, active low", 22 CLK (in) "Data clock input", 23 SDI (in) "Serial data input", 24 ~{LOAD} (in) "DAC input register load control, active low", 25 LDAC (in) "DAC register load control, rising edge triggered", 26 RST (in) "Reset, rising edge triggered. Depending on the state of RSTSEL, the DAC registers are set to either mid-scale or zero.", 27 RSTSEL (in) "Reset select. Determines the action of RST. If high, an RST command sets the DAC registers to mid-scale (8000h). If low, an RST command sets the DAC registers to zero (0000h).", 44 VOUTD SENSE 2 (in) "Connect to VOUTD for bipolar mode", 45 VOUTD SENSE 1 (in) "Connect to VOUTD for unipolar mode", 46 VOUTD (out) "DAC D output", 49 OFFSET D RANGE 1 "Connect to Offset D Range 2 for unipolar mode", 50 OFFSET D RANGE 2 "Connect to Offset D Range 1 for unipolar mode", 51 OFFSET C RANGE 2 "Connect to Offset C Range 1 for unipolar mode", 52 OFFSET C RANGE 1 "Connect to Offset C Range 2 for unipolar mode", 53 VOUTC SENSE 2 (in) "Connect to VOUTC for bipolar mode", 54 VOUTC SENSE 1 (in) "Connect to VOUTC for unipolar mode", 55 VOUTC (out) "DAC C output", 58 VOUTB (out) "DAC B output", 59 VOUTB SENSE 1 (in) "Connect to VOUTB for unipolar mode", 60 VOUTB SENSE 2 (in) "Connect to VOUTB for bipolar mode", 61 OFFSET B RANGE 1 "Connect to Offset B Range 2 for unipolar mode", 62 OFFSET B RANGE 2 "Connect to Offset B Range 1 for unipolar mode", 63 OFFSET A RANGE 2 "Connect to Offset A Range 1 for unipolar mode", 64 OFFSET A RANGE 1 "Connect to Offset A Range 2 for unipolar mode"
part B pins: 3 VSS (power) "Analog -5V power supply or 0V single supply", 4 VCC (power) "Analog +5V power supply", 8 AGND (power) "Analog ground", 17 DGND (power) "Digital ground", 18 VDD (power) "Digital +5V power supply", 19 IOVDD (power) "Interface power supply", 28 DGND (power) "Digital ground", 29 VDD (power) "Digital +5V power supply", 56 REF GND (power) "Reference ground", 57 REF GND (power) "Reference ground"
part C pins: 1 NC "No Connection", 2 NC "No Connection", 9 NC "No connection", 10 NC "No connection", 11 NC "No connection", 12 NC "No connection", 13 NC "No connection", 14 NC "No connection", 15 NC "No connection", 16 NC "No connection", 30 NC "No connection", 31 NC "No connection", 32 NC "No connection", 33 NC "No connection", 34 NC "No connection", 35 NC "No connection", 36 NC "No connection", 37 NC "No connection", 38 NC "No connection", 39 NC "No connection", 40 NC "No connection", 41 NC "No connection", 42 NC "No connection", 43 NC "No connection", 47 NC "No connection", 48 NC "No connection"

## DAC7654YTG4
designator U?
16-Bit, Quad Voltage Output Digital to Analog Converter, -40 to 85 degC, 64-pin QFP (PM64), Green (RoHS & no Sb/Br); Manufacturer: Texas Instruments; PartNumber: DAC7654YTG4; DAC Channels: 4; DNL(Max)(+/-LSB): 3; Interface: Serial SPI; Power Consumption(Typ)(mW): 18; Resolution(Bits): 16; Settling Time(us): 12; SubFamily: Precision DAC (=<10MSPS); DatasheetVersion: SBAS263A; PackageVersion: 4040152/C, 11/1996; PackageReference: PM64; PackageDescription: 64-Pin Plastic Quad Flatpack, Body 10 x 10 mm, Pitch 0.5 mm; Supplier 1: Digi-Key; Supplier Part Number 1: DAC7654YTG4-ND; Supplier 2: Mouser; Supplier Part Number 2: 595-DAC7654YTG4; Eco-Plan: Green (RoHS & no Sb/Br); INL(Max)(+/-LSB): 4; Mounting Technology: Surface Mount; Code_JEDEC: MS-026; ComponentLink1Description: Manufacturer URL; ComponentLink1URL: http://www.ti.com/; ComponentLink2Description: Datasheet; ComponentLink2URL: http://www.ti.com/general/docs/lit/getliterature.tsp?genericPartNumber=DAC7654&fileType=pdf; ComponentLink3Description: Package Specification; ComponentLink3URL: http://www.ti.com/lit/ml/mtqf008a/mtqf008a.pdf
footprint TI-PM64_N (QFP, 64-Leads, Body 10x10mm, Pitch 0.5mm, IPC Medium Density)
footprint TI-PM64_L (QFP, 64-Leads, Body 10x10mm, Pitch 0.5mm, IPC High Density)
footprint TI-PM64_M (QFP, 64-Leads, Body 10x10mm, Pitch 0.5mm, IPC Low Density)
part A pins: 5 VOUTA (out) "DAC A output voltage", 6 VOUTA SENSE 1 (in) "Connect to VOUTA for unipolar mode", 7 VOUTA SENSE 2 (in) "Connect to VOUTA for bipolar mode", 20 SDO (out) "Serial data output", 21 ~{CS} (in) "Chip select, active low", 22 CLK (in) "Data clock input", 23 SDI (in) "Serial data input", 24 ~{LOAD} (in) "DAC input register load control, active low", 25 LDAC (in) "DAC register load control, rising edge triggered", 26 RST (in) "Reset, rising edge triggered. Depending on the state of RSTSEL, the DAC registers are set to either mid-scale or zero.", 27 RSTSEL (in) "Reset select. Determines the action of RST. If high, an RST command sets the DAC registers to mid-scale (8000h). If low, an RST command sets the DAC registers to zero (0000h).", 44 VOUTD SENSE 2 (in) "Connect to VOUTD for bipolar mode", 45 VOUTD SENSE 1 (in) "Connect to VOUTD for unipolar mode", 46 VOUTD (out) "DAC D output", 49 OFFSET D RANGE 1 "Connect to Offset D Range 2 for unipolar mode", 50 OFFSET D RANGE 2 "Connect to Offset D Range 1 for unipolar mode", 51 OFFSET C RANGE 2 "Connect to Offset C Range 1 for unipolar mode", 52 OFFSET C RANGE 1 "Connect to Offset C Range 2 for unipolar mode", 53 VOUTC SENSE 2 (in) "Connect to VOUTC for bipolar mode", 54 VOUTC SENSE 1 (in) "Connect to VOUTC for unipolar mode", 55 VOUTC (out) "DAC C output", 58 VOUTB (out) "DAC B output", 59 VOUTB SENSE 1 (in) "Connect to VOUTB for unipolar mode", 60 VOUTB SENSE 2 (in) "Connect to VOUTB for bipolar mode", 61 OFFSET B RANGE 1 "Connect to Offset B Range 2 for unipolar mode", 62 OFFSET B RANGE 2 "Connect to Offset B Range 1 for unipolar mode", 63 OFFSET A RANGE 2 "Connect to Offset A Range 1 for unipolar mode", 64 OFFSET A RANGE 1 "Connect to Offset A Range 2 for unipolar mode"
part B pins: 3 VSS (power) "Analog -5V power supply or 0V single supply", 4 VCC (power) "Analog +5V power supply", 8 AGND (power) "Analog ground", 17 DGND (power) "Digital ground", 18 VDD (power) "Digital +5V power supply", 19 IOVDD (power) "Interface power supply", 28 DGND (power) "Digital ground", 29 VDD (power) "Digital +5V power supply", 56 REF GND (power) "Reference ground", 57 REF GND (power) "Reference ground"
part C pins: 1 NC "No Connection", 2 NC "No Connection", 9 NC "No connection", 10 NC "No connection", 11 NC "No connection", 12 NC "No connection", 13 NC "No connection", 14 NC "No connection", 15 NC "No connection", 16 NC "No connection", 30 NC "No connection", 31 NC "No connection", 32 NC "No connection", 33 NC "No connection", 34 NC "No connection", 35 NC "No connection", 36 NC "No connection", 37 NC "No connection", 38 NC "No connection", 39 NC "No connection", 40 NC "No connection", 41 NC "No connection", 42 NC "No connection", 43 NC "No connection", 47 NC "No connection", 48 NC "No connection"

## DAC7664YBT
designator U?
Digital to Analog Converter, Quad, 16-Bit, 12 us Settling Time, +/- 1 LSB DNL, -40 to 85 degC, 64-pin QFP (PM64), Green (RoHS & no Sb/Br); Manufacturer: Texas Instruments; PartNumber: DAC7664YBT; DAC Channels: 4; DNL(Max)(+/-LSB): 2; INL(Max)(+/-LSB): 3; Interface: Parallel; Power Consumption(Typ)(mW): 18; Resolution(Bits): 16; Settling Time(us): 12; SubFamily: Precision DAC (=<10MSPS); DatasheetVersion: SBAS271; PackageVersion: 4040152/C, 11/1996; PackageReference: PM64; PackageDescription: 64-Pin Plastic Quad Flatpack, Body 10 x 10 mm, Pitch 0.5 mm; Supplier 1: Digi-Key; Supplier Part Number 1: DAC7664YBT-ND; Supplier 2: Mouser; Supplier Part Number 2: 595-DAC7664YBT; Eco-Plan: Green (RoHS & no Sb/Br); Mounting Technology: Surface Mount; Code_JEDEC: MS-026; ComponentLink1Description: Manufacturer URL; ComponentLink1URL: http://www.ti.com/; ComponentLink2Description: Datasheet; ComponentLink2URL: http://www.ti.com/general/docs/lit/getliterature.tsp?genericPartNumber=DAC7664&fileType=pdf; ComponentLink3Description: Package Specification; ComponentLink3URL: http://www.ti.com/lit/ml/mtqf008a/mtqf008a.pdf
footprint TI-PM64_N (QFP, 64-Leads, Body 10x10mm, Pitch 0.5mm, IPC Medium Density)
footprint TI-PM64_L (QFP, 64-Leads, Body 10x10mm, Pitch 0.5mm, IPC High Density)
footprint TI-PM64_M (QFP, 64-Leads, Body 10x10mm, Pitch 0.5mm, IPC Low Density)
part A pins: 5 VOUTA (out) "DAC A output voltage", 6 VOUTA SENSE 1 (in) "Connect to VOUTA for unipolar mode", 7 VOUTA SENSE 2 (in) "Connect to VOUTA for bipolar mode", 12 DB15 (MSB) (in) "Data bit 15 (MSB)", 13 DB14 (in) "Data bit 14", 14 DB13 (in) "Data bit 13", 17 DB12 (in) "Data bit 12", 18 DB11 (in) "Data bit 11", 19 DB10 (in) "Data bit 10", 20 DB9 (in) "Data bit 9", 21 DB8 (in) "Data bit 8", 22 DB7 (in) "Data bit 7", 23 DB6 (in) "Data bit 6", 24 DB5 (in) "Data bit 5", 25 DB4 (in) "Data bit 4", 26 DB3 (in) "Data bit 3", 27 DB2 (in) "Data bit 2", 28 DB1 (in) "Data bit 1", 29 DB0 (LSB) (in) "Data bit 0", 30 ~{CS} (in) "Chip select, active low", 31 R/~{W} (in) "Enabled by C\S\; controls the data read and data write.", 32 LDAC (in) "DAC register load control, rising edge triggered.", 35 A1 (in) "Enabled by CS; in combination with A0, selects the individual DAC input registers.", 36 A0 (in) "Enabled by CS; in combination with A1, selects the individual DAC input registers.", 37 RST (in) "Reset, rising edge triggered. Depending on the state of RSTSEL, the DAC registers are set to either mid-scale or zero.", 38 RSTSEL (in) "Reset select. Determines the action of RST. If high, an RST command sets the DAC registers to mid-scale (8000h). If low, an RST command sets the DAC registers to zero (0000h).", 44 VOUTD SENSE 2 (in) "Connect to VOUTD for bipolar mode", 45 VOUTD SENSE 1 (in) "Connect to VOUTD for unipolar mode", 46 VOUTD (out) "DAC D output", 49 OFFSET D RANGE 1 "Connect to Offset D Range 2 for unipolar mode", 50 OFFSET D RANGE 2 "Connect to Offset D Range 1 for unipolar mode", 51 OFFSET C RANGE 2 "Connect to Offset C Range 1 for unipolar mode", 52 OFFSET C RANGE 1 "Connect to Offset C Range 2 for unipolar mode", 53 VOUTC SENSE 2 (in) "Connect to VOUTC for bipolar mode", 54 VOUTC SENSE 1 (in) "Connect to VOUTC for unipolar mode", 55 VOUTC (out) "DAC C output", 58 VOUTB (out) "DAC B output", 59 VOUTB SENSE 1 (in) "Connect to VOUTB for unipolar mode", 60 VOUTB SENSE 2 (in) "Connect to VOUTB for bipolar mode", 61 OFFSET B RANGE 1 "Connect to Offset B Range 2 for unipolar mode", 62 OFFSET B RANGE 2 "Connect to Offset B Range 1 for unipolar mode", 63 OFFSET A RANGE 2 "Connect to Offset A Range 1 for unipolar mode", 64 OFFSET A RANGE 1 "Connect to Offset A Range 2 for unipolar mode"
part B pins: 3 VSS (power) "Analog -5V power supply or 0V single supply", 4 VCC (power) "Analog +5V power supply", 8 AGND (power) "Analog ground", 9 DGND (power) "Digital ground", 10 VDD (power) "Digital +5V power supply", 11 IOVDD (power) "Interface power supply", 56 REF GND (power) "Reference ground", 57 REF GND (power) "Reference ground"
part C pins: 1 NC "No Connection", 2 NC "No Connection", 15 NC "No connection", 16 NC "No connection", 33 NC "No connection", 34 NC "No connection", 39 NC "No connection", 40 NC "No connection", 41 NC "No connection", 42 NC "No connection", 43 NC "No connection", 47 NC "No connection", 48 NC "No connection"

## DAC7664YBTG4
designator U?
Digital to Analog Converter, Quad, 16-Bit, 12 us Settling Time, +/- 1 LSB DNL, -40 to 85 degC, 64-pin QFP (PM64), Green (RoHS & no Sb/Br); Manufacturer: Texas Instruments; PartNumber: DAC7664YBTG4; DAC Channels: 4; DNL(Max)(+/-LSB): 2; INL(Max)(+/-LSB): 3; Interface: Parallel; Power Consumption(Typ)(mW): 18; Resolution(Bits): 16; Settling Time(us): 12; SubFamily: Precision DAC (=<10MSPS); DatasheetVersion: SBAS271; PackageVersion: 4040152/C, 11/1996; PackageReference: PM64; PackageDescription: 64-Pin Plastic Quad Flatpack, Body 10 x 10 mm, Pitch 0.5 mm; Supplier 1: Digi-Key; Supplier Part Number 1: DAC7664YBTG4-ND; Supplier 2: Mouser; Supplier Part Number 2: 595-DAC7664YBTG4; Eco-Plan: Green (RoHS & no Sb/Br); Mounting Technology: Surface Mount; Code_JEDEC: MS-026; ComponentLink1Description: Manufacturer URL; ComponentLink1URL: http://www.ti.com/; ComponentLink2Description: Datasheet; ComponentLink2URL: http://www.ti.com/general/docs/lit/getliterature.tsp?genericPartNumber=DAC7664&fileType=pdf; ComponentLink3Description: Package Specification; ComponentLink3URL: http://www.ti.com/lit/ml/mtqf008a/mtqf008a.pdf
footprint TI-PM64_N (QFP, 64-Leads, Body 10x10mm, Pitch 0.5mm, IPC Medium Density)
footprint TI-PM64_L (QFP, 64-Leads, Body 10x10mm, Pitch 0.5mm, IPC High Density)
footprint TI-PM64_M (QFP, 64-Leads, Body 10x10mm, Pitch 0.5mm, IPC Low Density)
part A pins: 5 VOUTA (out) "DAC A output voltage", 6 VOUTA SENSE 1 (in) "Connect to VOUTA for unipolar mode", 7 VOUTA SENSE 2 (in) "Connect to VOUTA for bipolar mode", 12 DB15 (MSB) (in) "Data bit 15 (MSB)", 13 DB14 (in) "Data bit 14", 14 DB13 (in) "Data bit 13", 17 DB12 (in) "Data bit 12", 18 DB11 (in) "Data bit 11", 19 DB10 (in) "Data bit 10", 20 DB9 (in) "Data bit 9", 21 DB8 (in) "Data bit 8", 22 DB7 (in) "Data bit 7", 23 DB6 (in) "Data bit 6", 24 DB5 (in) "Data bit 5", 25 DB4 (in) "Data bit 4", 26 DB3 (in) "Data bit 3", 27 DB2 (in) "Data bit 2", 28 DB1 (in) "Data bit 1", 29 DB0 (LSB) (in) "Data bit 0", 30 ~{CS} (in) "Chip select, active low", 31 R/~{W} (in) "Enabled by C\S\; controls the data read and data write.", 32 LDAC (in) "DAC register load control, rising edge triggered.", 35 A1 (in) "Enabled by CS; in combination with A0, selects the individual DAC input registers.", 36 A0 (in) "Enabled by CS; in combination with A1, selects the individual DAC input registers.", 37 RST (in) "Reset, rising edge triggered. Depending on the state of RSTSEL, the DAC registers are set to either mid-scale or zero.", 38 RSTSEL (in) "Reset select. Determines the action of RST. If high, an RST command sets the DAC registers to mid-scale (8000h). If low, an RST command sets the DAC registers to zero (0000h).", 44 VOUTD SENSE 2 (in) "Connect to VOUTD for bipolar mode", 45 VOUTD SENSE 1 (in) "Connect to VOUTD for unipolar mode", 46 VOUTD (out) "DAC D output", 49 OFFSET D RANGE 1 "Connect to Offset D Range 2 for unipolar mode", 50 OFFSET D RANGE 2 "Connect to Offset D Range 1 for unipolar mode", 51 OFFSET C RANGE 2 "Connect to Offset C Range 1 for unipolar mode", 52 OFFSET C RANGE 1 "Connect to Offset C Range 2 for unipolar mode", 53 VOUTC SENSE 2 (in) "Connect to VOUTC for bipolar mode", 54 VOUTC SENSE 1 (in) "Connect to VOUTC for unipolar mode", 55 VOUTC (out) "DAC C output", 58 VOUTB (out) "DAC B output", 59 VOUTB SENSE 1 (in) "Connect to VOUTB for unipolar mode", 60 VOUTB SENSE 2 (in) "Connect to VOUTB for bipolar mode", 61 OFFSET B RANGE 1 "Connect to Offset B Range 2 for unipolar mode", 62 OFFSET B RANGE 2 "Connect to Offset B Range 1 for unipolar mode", 63 OFFSET A RANGE 2 "Connect to Offset A Range 1 for unipolar mode", 64 OFFSET A RANGE 1 "Connect to Offset A Range 2 for unipolar mode"
part B pins: 3 VSS (power) "Analog -5V power supply or 0V single supply", 4 VCC (power) "Analog +5V power supply", 8 AGND (power) "Analog ground", 9 DGND (power) "Digital ground", 10 VDD (power) "Digital +5V power supply", 11 IOVDD (power) "Interface power supply", 56 REF GND (power) "Reference ground", 57 REF GND (power) "Reference ground"
part C pins: 1 NC "No Connection", 2 NC "No Connection", 15 NC "No connection", 16 NC "No connection", 33 NC "No connection", 34 NC "No connection", 39 NC "No connection", 40 NC "No connection", 41 NC "No connection", 42 NC "No connection", 43 NC "No connection", 47 NC "No connection", 48 NC "No connection"

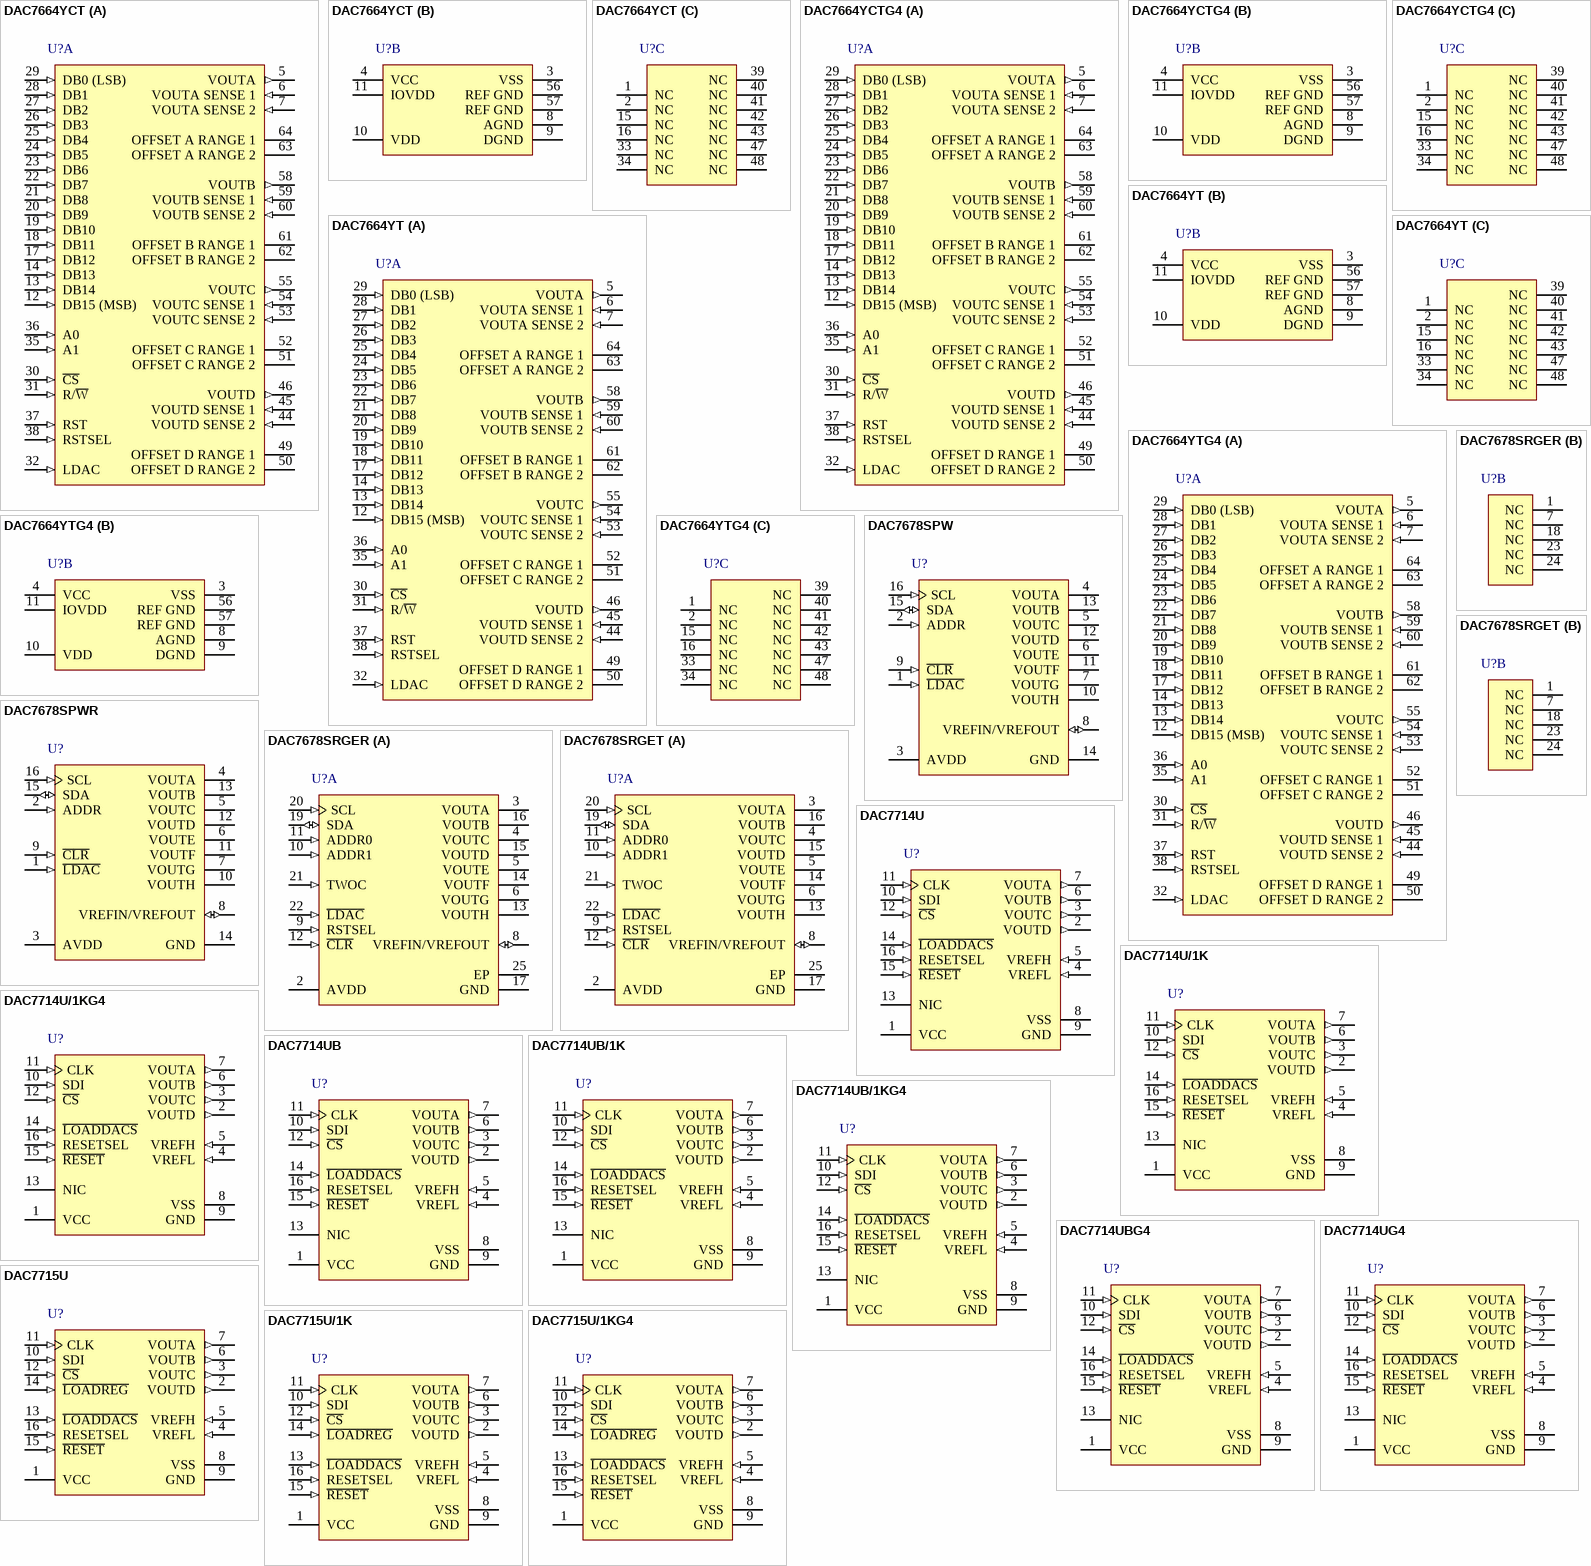
[diagram p34: symbols DAC7664YCT to DAC7715U/1KG4]